# EAGLE library part 615008145521 (library InputOutputIO (rev19a))
WR-MJ Horizontal Shielded With EMI Panel Finger 8P8C Modular Jack CAT 5e Tab Down, 8 Pins=>Code : Con_I-O_MJ-H_Shielded_down_615008145521 <http://katalog.we-online.de/media/images/eican/Con_I-O_MJ-H_Shielded_down_615008145521_pf2.jpg> Details see: http://katalog.we-online.de/en/em/MJ_HORIZONTAL_SHIELDED_W_EMI_PANEL_FINGER_8P8C_CAT_5E_TAB_DOWN/ Created 2014-07-09, Karrer Zheng 2014 (C) Würth Elektronik
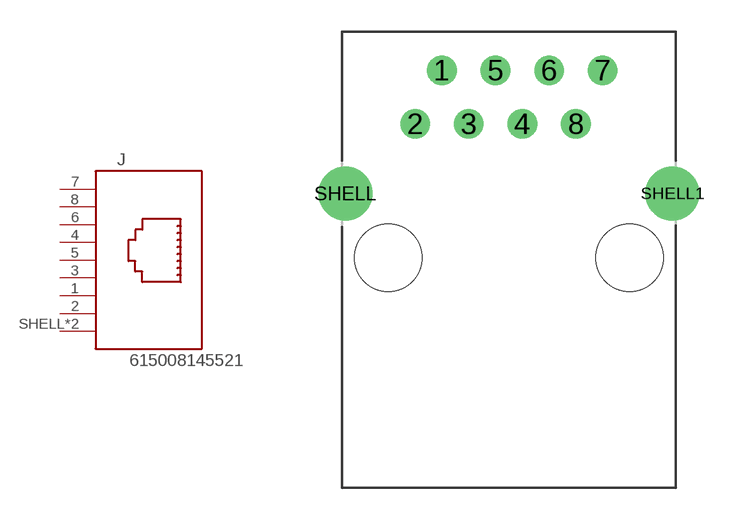
[diagram p121: symbol with the pads of 615008145521; footprint 615008145521]

Designator prefix J

## 615008145521  [615008145521]
1  2  pas
2  1  pas
3  3  pas
4  5  pas
5  4  pas
6  6  pas
7  8  pas
8  7  pas
SHELL  SHIELD  pas
SHELL1  SHIELD  pas

## Footprint 615008145521 (pad centres in mm)
WR-MJ Horizontal Shielded With EMI Panel Finger 8P8C Modular Jack CAT 5e Tab Down, 8 Pins
drill 0.9: 1 -3.175,1.27; 2 -4.445,-1.27; 3 -1.905,-1.27; 4 0.635,-1.27; 5 -0.635,1.27; 6 1.905,1.27; 7 4.445,1.27; 8 3.175,-1.27
drill 1.7: SHELL -7.75,-4.57; SHELL1 7.75,-4.57
hole 3.2 at -5.715,-7.62
hole 3.2 at 5.715,-7.62